# EAGLE library part NCP3063-DFN08 (library power_convertors)
1.5 A, Step-Up/Down/ Inverting Switching Regulators EP Flag must be tied to GND Pin 4 on PCB !!! - SC _ Switch Collector - SE _ Switch Emitor - TC _ Timing Capacitor - GND _ GROUND - IPS _ Current peak sense - VCC _ Supply voltage (+) - CII _ Comparator Inverting Input Features > Operation to 40 V Input > Low Standby Current > Output Switch Current to 1.5 A > Output Voltage Adjustable > Frequency Operation of 150 kHz > Precision 1.5% Reference > New Features: Internal Thermal Shutdown with Hysteresis New Features: Cycle?by?Cycle Current Limiting > Pb?Free Packages are Available Applications > Step?Down, Step?Up and Inverting supply applications > High Power LED Lighting > Battery Chargers
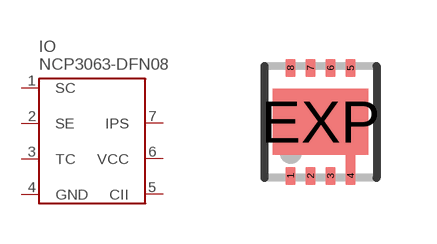
[diagram p2: symbol with the pads of DFN8-3X3; footprint DFN8-3X3]

Designator prefix IO

## NCP3063-DFN08  [DFN8-3X3]
1  SC
2  SE
3  TC
4  GND
5  CII
6  VCC
7  IPS

## Footprint DFN8-3X3 (pad centres in mm)
DD Package 8-Lead Plastic DFN (3mm × 3mm) Source: http://cds.linear.com/docs/Datasheet/623012fb.pdf
smd 0.25 x 0.45: 1 -0.75,-1.35; 2 -0.25,-1.35; 3 0.25,-1.35; 4 0.75,-1.35; 5 0.75,1.35; 6 0.25,1.35; 7 -0.25,1.35; 8 -0.75,1.35
smd 2.38 x 1.65: EXP 0,0